# EAGLE library part KSZ8851 (library ksz8851)
SPI ethernet PHY http://www.micrel.com/_PDF/Ethernet/ethernet_datasheet/ksz8851snl_ds.pdf
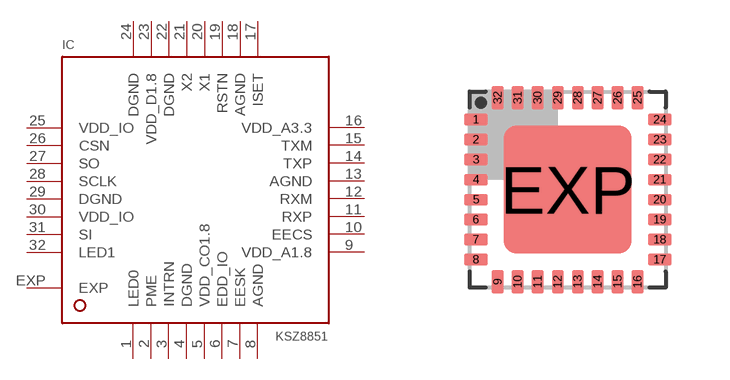
[diagram p0: symbol with the pads of QFN32; footprint QFN32]

Designator prefix IC

## KSZ8851SNL  [QFN32]
1  LED0  out
2  PME  out
3  INTRN  out
4  DGND  pwr
5  VDD_CO1.8  pwr
6  EDD_IO
7  EESK  out
8  AGND  pwr
9  VDD_A1.8  pwr
10  EECS  out
11  RXP
12  RXM
13  AGND  pwr
14  TXP
15  TXM
16  VDD_A3.3  pwr
17  ISET  out
18  AGND  pwr
19  RSTN  in
20  X1  in
21  X2  out
22  DGND  pwr
23  VDD_D1.8  pwr
24  DGND  pwr
25  VDD_IO  pwr
26  CSN  in
27  SO  out
28  SCLK  in
29  DGND  pwr
30  VDD_IO  pwr
31  SI  in
32  LED1  out
EXP  EXP  pwr

## Footprint QFN32 (pad centres in mm)
QFN 32 5 x 5 mm Source: http://datasheets.maxim-ic.com/en/ds/MAX7042.pdf
smd 0.6 x 0.3: 1 -2.3,1.75; 2 -2.3,1.25; 3 -2.3,0.75; 4 -2.3,0.25; 5 -2.3,-0.25; 6 -2.3,-0.75; 7 -2.3,-1.25; 8 -2.3,-1.75; 17 2.3,-1.75; 18 2.3,-1.25; 19 2.3,-0.75; 20 2.3,-0.25; 21 2.3,0.25; 22 2.3,0.75; 23 2.3,1.25; 24 2.3,1.75
smd 0.3 x 0.6: 9 -1.75,-2.3; 10 -1.25,-2.3; 11 -0.75,-2.3; 12 -0.25,-2.3; 13 0.25,-2.3; 14 0.75,-2.3; 15 1.25,-2.3; 16 1.75,-2.3; 25 1.75,2.3; 26 1.25,2.3; 27 0.75,2.3; 28 0.25,2.3; 29 -0.25,2.3; 30 -0.75,2.3; 31 -1.25,2.3; 32 -1.75,2.3
smd 3.2 x 3.2: EXP 0,0